# Altium schematic symbol library Terminal Block 6.SchLib: 1 symbol
Pins are listed as number, name and electrical type; pins without a type are passive.

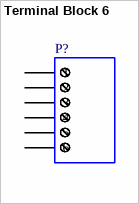
[diagram p0: symbol Terminal Block 6]

## Terminal Block 6
designator P?
Screw terminal block, 6-Way
pins: 1, 2, 3, 4, 5, 6